# EAGLE library part TVS1801DRBR (library ds_diode)
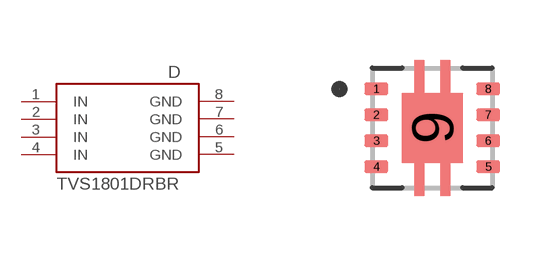
[diagram p0: symbol with the pads of SON8; footprint SON8]

Designator prefix D

## TVS1801DRBR (DATASHEET: https://www.ti.com/lit/ds/symlink/tvs1801.pdf; DESCRIPTION: 2 SON-8(3x3) Surge Protection Devices (SPDs) ROHS; LCSC_PART: C1849890; MANUFACTURER: Texas Instruments; MPN: TVS1801DRBR; ROHS: YES; VALUE: TVS1801DRBR)  [SON8]
1  IN  in
2  IN  in
3  IN  in
4  IN  in
5  GND  pwr
6  GND  pwr
7  GND  pwr
8  GND  pwr

## Footprint SON8 (pad centres in mm)
smd 0.6 x 0.31: 1 -1.4,0.975; 2 -1.4,0.325; 3 -1.4,-0.325; 4 -1.4,-0.975; 5 1.4,-0.975; 6 1.4,-0.325; 7 1.4,0.325; 8 1.4,0.975
smd 1.5 x 1.75: 9 0,0